# EAGLE library part FIBOCOM-H350 (library X893)
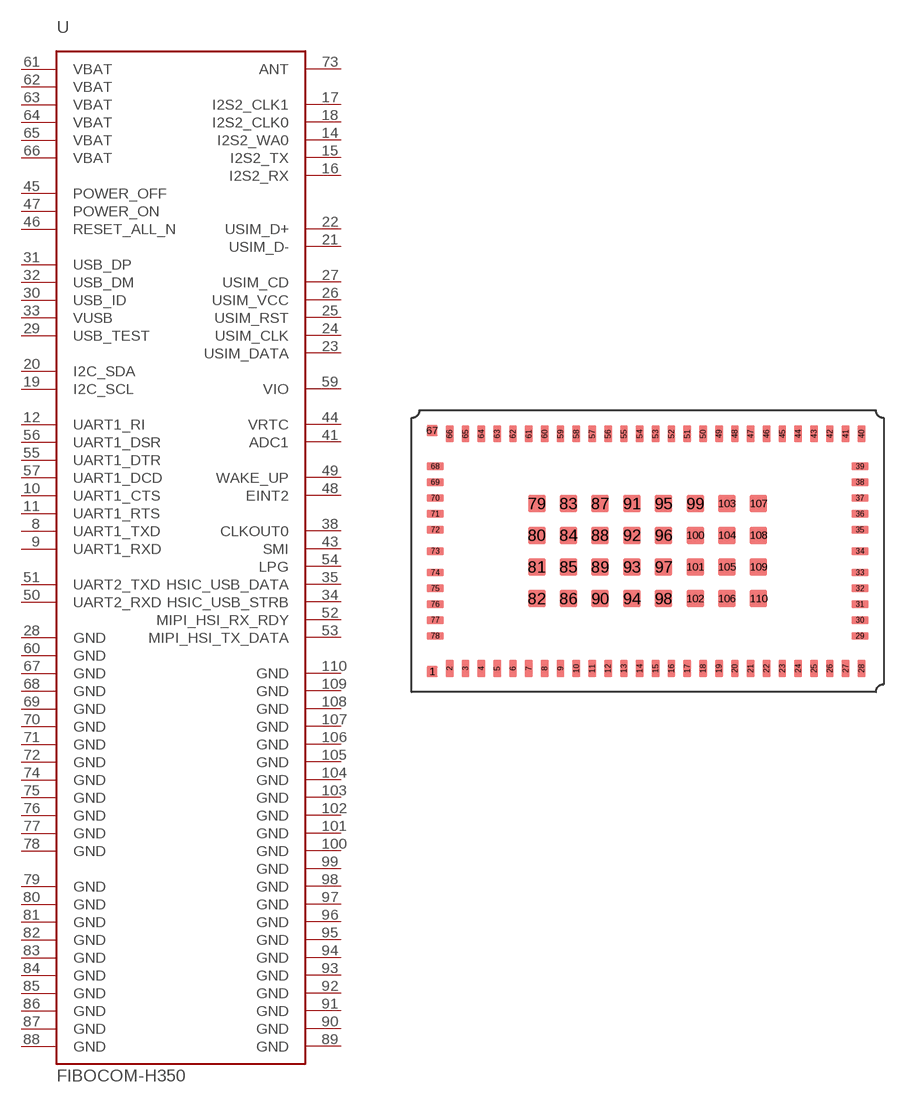
[diagram p200: symbol with the pads of FIBOCOM-H350; footprint FIBOCOM-H350]

Designator prefix U

## FIBOCOM-H350  [FIBOCOM-H350]
1  NC  nc
2  NC  nc
3  NC  nc
4  NC  nc
5  NC  nc
6  NC  nc
7  NC  nc
8  UART1_TXD  out
9  UART1_RXD  in
10  UART1_CTS  in
11  UART1_RTS  out
12  UART1_RI  out
13  NC  nc
14  I2S2_WA0  out
15  I2S2_TX  out
16  I2S2_RX  in
17  I2S2_CLK1  out
18  I2S2_CLK0  out
19  I2C_SCL  in
20  I2C_SDA
21  USIM_D-
22  USIM_D+
23  USIM_DATA
24  USIM_CLK  out
25  USIM_RST  out
26  USIM_VCC  out
27  USIM_CD  in
28  GND  pwr
29  USB_TEST  pas
30  USB_ID  pas
31  USB_DP
32  USB_DM
33  VUSB  in
34  HSIC_USB_STRB  pas
35  HSIC_USB_DATA  pas
36  NC  nc
37  NC  nc
38  CLKOUT0  out
39  NC  nc
40  NC  nc
41  ADC1  in
42  NC  nc
43  SMI  out
44  VRTC  pas
45  POWER_OFF  in
46  RESET_ALL_N  in
47  POWER_ON  in
48  EINT2  in
49  WAKE_UP  in
50  UART2_RXD  in
51  UART2_TXD  out
52  MIPI_HSI_RX_RDY  in
53  MIPI_HSI_TX_DATA  out
54  LPG  out
55  UART1_DTR  out
56  UART1_DSR  in
57  UART1_DCD  out
58  NC  nc
59  VIO  pas
60  GND  pwr
61  VBAT  pas
62  VBAT  pas
63  VBAT  pas
64  VBAT  pas
65  VBAT  pas
66  VBAT  pas
67  GND  pwr
68  GND  pwr
69  GND  pwr
70  GND  pwr
71  GND  pwr
72  GND  pwr
73  ANT  pas
74  GND  pwr
75  GND  pwr
76  GND  pwr
77  GND  pwr
78  GND  pwr
79  GND  pwr
80  GND  pwr
81  GND  pwr
82  GND  pwr
83  GND  pwr
84  GND  pwr
85  GND  pwr
86  GND  pwr
87  GND  pwr
88  GND  pwr
89  GND  pwr
90  GND  pwr
91  GND  pwr
92  GND  pwr
93  GND  pwr
94  GND  pwr
95  GND  pwr
96  GND  pwr
97  GND  pwr
98  GND  pwr
99  GND  pwr
100  GND  pwr
101  GND  pwr
102  GND  pwr
103  GND  pwr
104  GND  pwr
105  GND  pwr
106  GND  pwr
107  GND  pwr
108  GND  pwr
109  GND  pwr
110  GND  pwr

## Footprint FIBOCOM-H350 (pad centres in mm)
smd 0.7 x 0.7: 1 -13.6,-7.6; 67 -13.6,7.6
smd 0.5 x 1.1: 2 -12.5,-7.4; 3 -11.5,-7.4; 4 -10.5,-7.4; 5 -9.5,-7.4; 6 -8.5,-7.4; 7 -7.5,-7.4; 8 -6.5,-7.4; 9 -5.5,-7.4; 10 -4.5,-7.4; 11 -3.5,-7.4; 12 -2.5,-7.4; 13 -1.5,-7.4; 14 -0.5,-7.4; 15 0.5,-7.4; 16 1.5,-7.4; 17 2.5,-7.4; 18 3.5,-7.4; 19 4.5,-7.4; 20 5.5,-7.4; 21 6.5,-7.4; 22 7.5,-7.4; 23 8.5,-7.4; 24 9.5,-7.4; 25 10.5,-7.4; 26 11.5,-7.4; 27 12.5,-7.4; 28 13.5,-7.4; 40 13.5,7.4; 41 12.5,7.4; 42 11.5,7.4; 43 10.5,7.4; 44 9.5,7.4; 45 8.5,7.4; 46 7.5,7.4; 47 6.5,7.4; 48 5.5,7.4; 49 4.5,7.4; 50 3.5,7.4; 51 2.5,7.4; 52 1.5,7.4; 53 0.5,7.4; 54 -0.5,7.4; 55 -1.5,7.4; 56 -2.5,7.4; 57 -3.5,7.4; 58 -4.5,7.4; 59 -5.5,7.4; 60 -6.5,7.4; 61 -7.5,7.4; 62 -8.5,7.4; 63 -9.5,7.4; 64 -10.5,7.4; 65 -11.5,7.4; 66 -12.5,7.4
smd 1.1 x 0.5: 29 13.4,-5.35; 30 13.4,-4.35; 31 13.4,-3.35; 32 13.4,-2.35; 33 13.4,-1.35; 34 13.4,0; 35 13.4,1.35; 36 13.4,2.35; 37 13.4,3.35; 38 13.4,4.35; 39 13.4,5.35; 68 -13.4,5.35; 69 -13.4,4.35; 70 -13.4,3.35; 71 -13.4,2.35; 72 -13.4,1.35; 73 -13.4,0; 74 -13.4,-1.35; 75 -13.4,-2.35; 76 -13.4,-3.35; 77 -13.4,-4.35; 78 -13.4,-5.35
smd 1.1 x 1.1: 79 -7,3; 80 -7,1; 81 -7,-1; 82 -7,-3; 83 -5,3; 84 -5,1; 85 -5,-1; 86 -5,-3; 87 -3,3; 88 -3,1; 89 -3,-1; 90 -3,-3; 91 -1,3; 92 -1,1; 93 -1,-1; 94 -1,-3; 95 1,3; 96 1,1; 97 1,-1; 98 1,-3; 99 3,3; 100 3,1; 101 3,-1; 102 3,-3; 103 5,3; 104 5,1; 105 5,-1; 106 5,-3; 107 7,3; 108 7,1; 109 7,-1; 110 7,-3